# Altium schematic symbol library VZ4TH5B0191760L.SchLib: 1 symbol
Pins are listed as number, name and electrical type; pins without a type are passive.

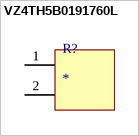
[diagram p0: symbol VZ4TH5B0191760L]

## VZ4TH5B0191760L
designator R?
Vibration Motor; MF: Yageo; MP: RC0603FR-0710KL; Price: None; Check_prices: https://www.snapeda.com/parts/RC0603FR-0710KL/Yageo/view-part/105933/?ref=eda; Value: *; Purchase-URL: https://pricing.snapeda.com/search/part/RC0603FR-0710KL/?ref=eda; Availability: Good; SnapEDA_Link: https://www.snapeda.com/parts/RC0603FR-0710KL/Yageo/view-part/105933/?ref=snap; Package: 0603 Yageo
footprint VZ4TH5B0191760L (Vibration Motor)
pins: 1, 2